# EAGLE library part XS04-2S (library connectors)
Shielded connector, 4 pins, 2 shield pins
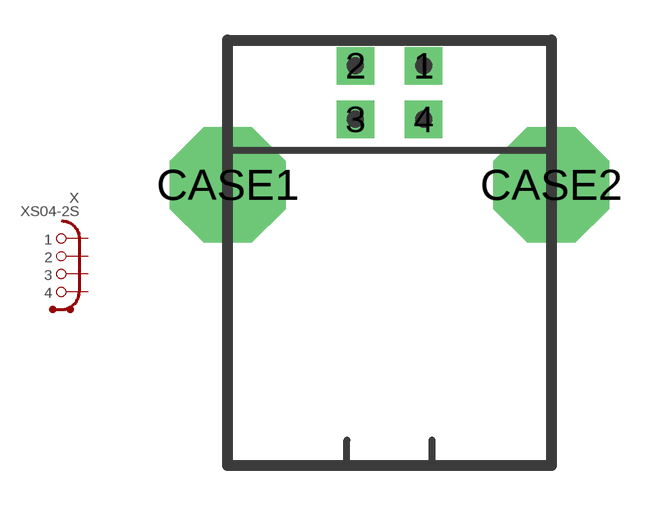
[diagram p66: symbol with the pads of XS04-2S1; footprint XS04-2S1]

Designator prefix X

## XS04-2S-USB1  [XS04-2S1]
1  1
2  2
3  3
4  4
CASE1  GND
CASE2  GND

## Footprint XS04-2S1 (pad centres in mm)
USB sink connector 4 pins - Tyco electronics drawing C-292304
drill 0.813 pad 1.397 square: 1 0,0; 2 -2.54,0; 3 -2.54,-2; 4 0,-2
drill 2.286 pad 4.318 octagon: CASE1 -7.303,-4.445; CASE2 4.763,-4.445